# Altium schematic symbol library Ultrascale_SchLib.SchLib: 183 symbols (part 2 of 4)
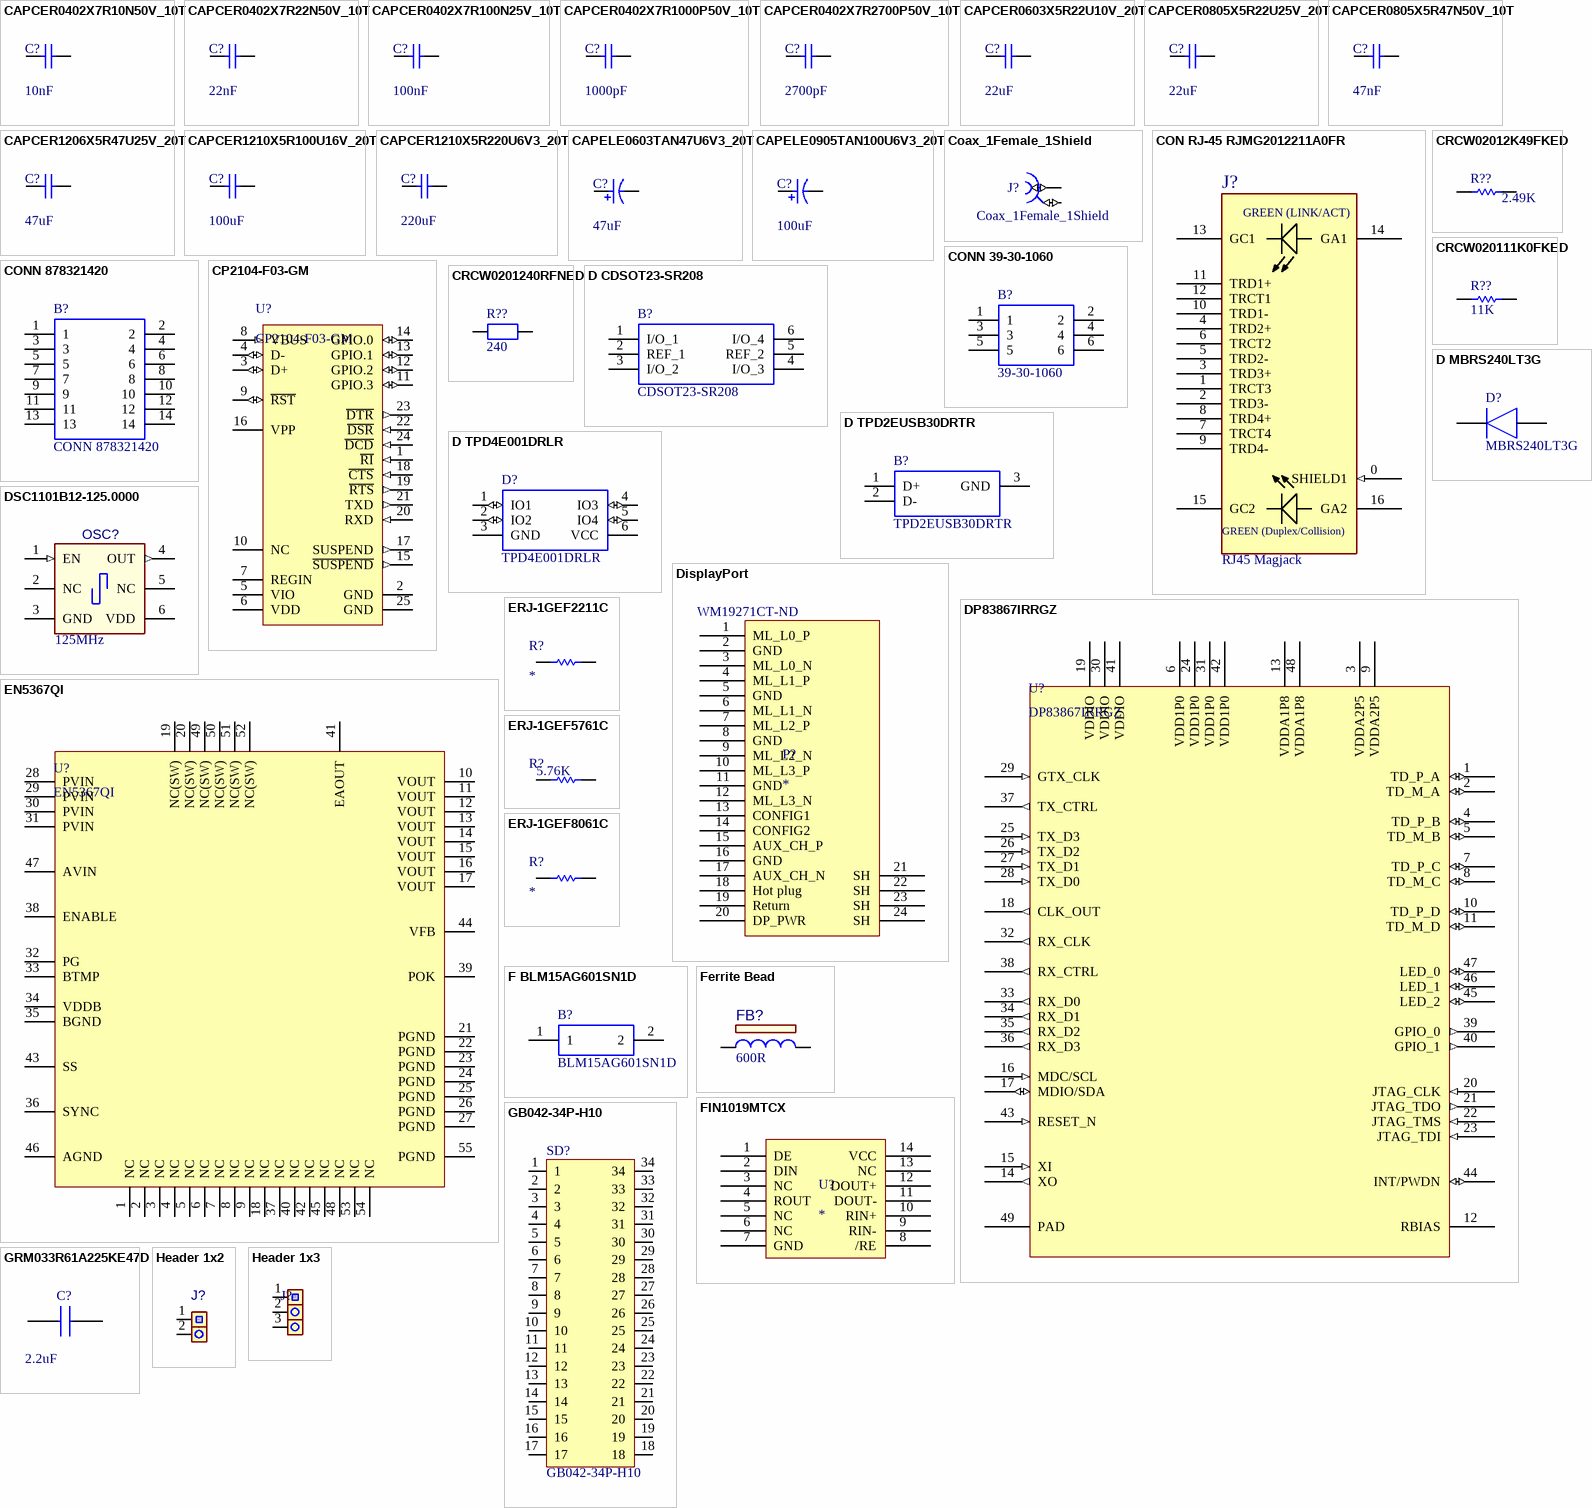
[diagram p9: symbols CAPCER0402X7R10N50V_10T to Header 1x3]

## D TPD2EUSB30DRTR
designator B?, comment TPD2EUSB30DRTR
Texas Instruments TPD2EUSB30DRTR Dual Bi-Directional TVS Diode Array, 45W peak, 3-Pin SOT; Geometry.Height: 0.5mm; Unidirectional Channels: 2; Voltage - Reverse Standoff (Typ): 5.5V (Max); Voltage - Breakdown (Min): 7V; Voltage - Clamping (Max) @ Ipp: 8V; Current - Peak Pulse (10/1000µs): 1A (8/20µs); Power Line Protection: Yes; Manufacturer_Name: Texas Instruments; Manufacturer_Part_Number: TPD2EUSB30DRTR; Datasheet Link: http://docs-europe.electrocomponents.com/webdocs/1520/0900766b81520865.pdf; Digi-Key Part Number: 296-25509-1-ND; Type: Steering; Power - Peak Pulse: 45W; Operating Temperature: -40°C ~ 85°C (TA); Mounting Type: Surface Mount; Package / Case: SOT-3; Supplier Device Package: SOT-3; Supplier 1: Digi-Key; Supplier Part Number 1: 296-25509-6-ND
footprint SOTFL35P100X50-3N (TVS DIODE 5.5VWM 8VC SOT3)
pins: 1 D+, 2 D-, 3 GND

## D TPD4E001DRLR
designator D?, comment TPD4E001DRLR
Low-Capacitance 4-Channel +/-15-kV ESD Protection Array for High-Speed Data Interfaces; Manufacturer_Name: Texas Instruments; Geometry.Height: 0.6mm; Type: Steering; Unidirectional Channels: 4; Voltage - Reverse Standoff (Typ): 5.5V (Max); Voltage - Breakdown (Min): 11V; Power - Peak Pulse: 100W; Power Line Protection: Yes; Manufacturer_Part_Number: TPD4E001DRLR; Datasheet Link: http://www.ti.com/lit/ds/symlink/tpd4e001.pdf; Digi-Key Part Number: 296-21887-1-ND; Applications: Ethernet; Operating Temperature: -40°C ~ 85°C (TA); Mounting Type: Surface Mount; Package / Case: SOT-563, SOT-666; Supplier Device Package: 6-SOT; Supplier 1: Digi-Key; Supplier Part Number 1: 296-21887-1-ND
footprint SOTFL50P160X60-6N
pins: 1 IO1 (io), 2 IO2 (io), 3 GND, 4 IO3 (io), 5 IO4 (io), 6 VCC (power)

## DisplayPort
designator P?  Supplier Part Number 1: WM19271CT-ND
CONN RCPT 20POS UDI R/A SMD; Manufacturer: Molex, LLC; Manufacturer Part Number: 0472720001; Detailed Description: DisplayPort Receptacle Connector 20 Position Surface Mount, Right Angle; Through Hole; Connector Type: DisplayPort; Number of Contacts: 20; Gender: Receptacle; Number of Ports: 1; Current Rating: 0.5A; Voltage - Rated: 40VAC; Mating Cycles: 10000; Shielding: Shielded; Material Flammability Rating: UL94 V-0; Digi-Key Part Number: WM19271CT-ND; Series: 47272; Specifications: -; Mounting Type: Surface Mount, Right Angle; Through Hole; Mounting Feature: Horizontal; Termination: Solder; Features: Board Guide, Latch Lock; Ingress Protection: -; Operating Temperature: -20°C ~ 85°C; Contact Finish: Gold; Shell/Shielding Material: Steel, Stainless; Insulation Color: Black; Supplier 1: Digi-Key
footprint 8470-2-2-X
pins: 1 ML_L0_P  (power), 2 GND (power), 3 ML_L0_N  (power), 4 ML_L1_P  (power), 5 GND (power), 6 ML_L1_N  (power), 7 ML_L2_P  (power), 8 GND (power), 9 ML_L2_N  (power), 10 ML_L3_P  (power), 11 GND (power), 12 ML_L3_N  (power), 13 CONFIG1 (power), 14 CONFIG2 (power), 15 AUX_CH_P (power), 16 GND (power), 17 AUX_CH_N (power), 18 Hot plug (power), 19 Return (power), 20 DP_PWR (power), 21 SH (power), 22 SH (power), 23 SH (power), 24 SH (power)

## DP83867IRRGZ
designator U?
IC ETHERNET PHY 48VQFN; Manufacturer 1: Texas Instruments; Manufacturer Part Number 1: DP83867IRRGZT; ComponentLink1Description: Datasheet; ComponentLink1URL: C:\Users\Public\Documents\Altium\AD16\Library\PDF\dp83867ir.pdf; Supplier 1: Digi-Key; Supplier Part Number 1: 296-47204-1-ND; Operating Temperature: -40°C ~ 85°C
footprint QFN50P700X700X100_HS-49N (QFN, 48-Leads, Body 7.00x7.00mm, Pitch 0.50mm, Thermal Pad 4.08x4.08mm, IPC Medium Density)
pins: 1 TD_P_A (io), 2 TD_M_A (io), 3 VDDA2P5, 4 TD_P_B (io), 5 TD_M_B (io), 6 VDD1P0, 7 TD_P_C (io), 8 TD_M_C (io), 9 VDDA2P5, 10 TD_P_D (io), 11 TD_M_D (io), 12 RBIAS, 13 VDDA1P8, 14 XO (out), 15 XI (in), 16 MDC/SCL (in), 17 MDIO/SDA (io), 18 CLK_OUT (out), 19 VDDIO, 20 JTAG_CLK (in), 21 JTAG_TDO (out), 22 JTAG_TMS (in), 23 JTAG_TDI (in), 24 VDD1P0, 25 TX_D3 (in), 26 TX_D2 (in), 27 TX_D1 (in), 28 TX_D0 (in), 29 GTX_CLK (in), 30 VDDIO, 31 VDD1P0, 32 RX_CLK (out), 33 RX_D0 (out), 34 RX_D1 (out), 35 RX_D2 (out), 36 RX_D3 (out), 37 TX_CTRL (out), 38 RX_CTRL (out), 39 GPIO_0 (out), 40 GPIO_1 (out), 41 VDDIO, 42 VDD1P0, 43 RESET_N (in), 44 INT/PWDN (io), 45 LED_2 (io), 46 LED_1 (io), 47 LED_0 (io), 48 VDDA1P8, 49 PAD

## DSC1101B12-125.0000
designator OSC?  Frequency: 125MHz
OSC MEMS 125.000MHZ CMOS SMD; Manufacturer 1: Micrel; Manufacturer Part Number 1: DSC1101BI2-125.0000; Populated: Yes; Supplier 1: Digi-Key; Category: Crystals and Oscillators; ComponentLink1URL: http://www.ctscorp.com/components/Datasheets/008-0256-0.pdf; ComponentLink1Description: Datasheet; Description_: OSC MEMS 125.000MHZ CMOS SMD; RoHS: RoHS Compliant; Package: 5.0mm x 3.2mm
footprint OSC_5MX3M2_A (Oscillator 5x3.2mm 6 pin, 4 physical pins (2 & 5 removed))
pins: 1 EN (in), 2 NC, 3 GND, 4 OUT (out), 5 NC, 6 VDD (power)

## EN5367QI
designator U?
DC/DC CONVERTER 0.6-4.9V 29W; Manufacturer 1: Altera; Voltage - Output: 0.6 ~ 4.9 V; Voltage - Input: 2.5V - 5.5V; ComponentLink1Description: Datasheet; ComponentLink1URL: C:\Users\Public\Documents\Altium\AD16\Library\PDF\en5367qi_07013.pdf; Supplier 1: Digi-Key; Supplier Part Number 1: 544-2858-1-ND; Manufacturer Part Number 1: EN5367QI; Operating Temperature: -40°C ~ 85°C
footprint QFN54-EN5367QI (Enpirion QFN-54 (EN5367QI))
pins: 1 NC (power), 2 NC (power), 3 NC (power), 4 NC (power), 5 NC (power), 6 NC (power), 7 NC (power), 8 NC (power), 9 NC (power), 10 VOUT (power), 11 VOUT (power), 12 VOUT (power), 13 VOUT (power), 14 VOUT (power), 15 VOUT (power), 16 VOUT (power), 17 VOUT (power), 18 NC (power), 19 NC(SW) (power), 20 NC(SW) (power), 21 PGND (power), 22 PGND (power), 23 PGND (power), 24 PGND (power), 25 PGND (power), 26 PGND (power), 27 PGND (power), 28 PVIN (power), 29 PVIN (power), 30 PVIN (power), 31 PVIN (power), 32 PG (power), 33 BTMP (power), 34 VDDB (power), 35 BGND (power), 36 SYNC (power), 37 NC (power), 38 ENABLE (power), 39 POK (power), 40 NC (power), 41 EAOUT (power), 42 NC (power), 43 SS (power), 44 VFB (power), 45 NC (power), 46 AGND (power), 47 AVIN (power), 48 NC (power), 49 NC(SW) (power), 50 NC(SW) (power), 51 NC(SW) (power), 52 NC(SW) (power), 53 NC (power), 54 NC (power), 55 PGND (power)

## ERJ-1GEF2211C
designator R?
RES 2.21K OHM 0201 1% 1/20W; Manufacturer_Part_Number: ERJ-1GEF2211C; Vendor: Panasonic; Resistance_In_Ohms: 0.0; Power_(Watts): 0.05W, 1/20W; Tolerance: Jumper; Lead_Style: Surface Mount (SMD - SMT); Voltage_-_Working: 15V; Number_of_Terminations: 2; C: Copyright (C) 2015 Accelerated Designs. All rights reserved; DigiKeyPartNumber: P0.0AGTR-ND; Quantity_Available: 1650000; Copyright: Copyright (C) 2015 Accelerated Designs. All rights reserved; DataSheet: http://industrial.panasonic.com/www-data/pdf/AOA0000/AOA0000CE2.pdf; Case: 0201 (0603 metric); Packaging: Tape &amp; Reel (TR); Composition: Thick Film; Temperature_Coefficient: -; Resistance_(Ohms): 0.0; Features: -; Package_/_Case: 0201 (0603 Metric); Size_/_Dimension: 0.024" L x 0.012" W (0.60mm x 0.30mm); Height: 0.010" (0.26mm); Value: Value; Supplier 1: Digi-Key
footprint RC0201N
pins: 1, 2

## ERJ-1GEF5761C
designator R?  Resistance_(Ohms): 5.76K  (hidden comment: *)
RES 5.76K OHM 0201 1% 1/20W; Manufacturer_Part_Number: ERJ-1GEF5761C; Vendor: Panasonic; Power_(Watts): 0.05W, 1/20W; Tolerance: Â±1%; Lead_Style: Surface Mount (SMD - SMT); Voltage_-_Working: 15V; Temperature_Coefficient: Â±200ppm/Â°C; Number_of_Terminations: 2; C: Copyright (C) 2015 Accelerated Designs. All rights reserved; DigiKeyPartNumber: P4.70KABTR-ND; Quantity_Available: 0; Copyright: Copyright (C) 2015 Accelerated Designs. All rights reserved; DataSheet: http://industrial.panasonic.com/www-data/pdf/AOA0000/AOA0000CE2.pdf; Resistance_In_Ohms: 5.76K; Case: 0201 (0603 metric); Packaging: Tape &amp; Reel (TR); Composition: Thick Film; Features: -; Package_/_Case: 0201 (0603 Metric); Size_/_Dimension: 0.024" L x 0.012" W (0.60mm x 0.30mm); Height: 0.010" (0.26mm); Value: Value; Supplier 1: Digi-Key; Supplier Part Number 1: P5.76KABCT-ND
footprint RC0201N
pins: 1, 2

## ERJ-1GEF8061C
designator R?
RES 8.06K OHM 0201 1% 1/20W; Manufacturer_Part_Number: ERJ-1GEF8061C; Vendor: Panasonic; Resistance_In_Ohms: 4.70K; Power_(Watts): 0.05W, 1/20W; Tolerance: Â±1%; Lead_Style: Surface Mount (SMD - SMT); Voltage_-_Working: 15V; Temperature_Coefficient: Â±200ppm/Â°C; Number_of_Terminations: 2; C: Copyright (C) 2015 Accelerated Designs. All rights reserved; DigiKeyPartNumber: P4.70KABTR-ND; Quantity_Available: 0; Copyright: Copyright (C) 2015 Accelerated Designs. All rights reserved; DataSheet: http://industrial.panasonic.com/www-data/pdf/AOA0000/AOA0000CE2.pdf; Case: 0201 (0603 metric); Packaging: Tape &amp; Reel (TR); Composition: Thick Film; Features: -; Package_/_Case: 0201 (0603 Metric); Size_/_Dimension: 0.024" L x 0.012" W (0.60mm x 0.30mm); Height: 0.010" (0.26mm); Value: Value; Supplier 1: Digi-Key
footprint RC0201N
pins: 1, 2

## F BLM15AG601SN1D
designator B?, comment BLM15AG601SN1D
Ferrite bead SMD 0402 600R 300mA; Manufacturer_Name: Murata Electronics; Geometry.Height: 0.55mm; Number of Lines: 1; Impedance @ Frequency: 600 Ohm @ 100MHz; DC Resistance (DCR) (Max): 520 mOhm; Manufacturer_Part_Number: BLM15AG601SN1D; Datasheet Link: http://www.murata.com/~/media/webrenewal/support/library/catalog/products/emc/emifil/c31e.ashx?la=en-gb; Digi-Key Part Number: 490-1006-1-ND; Series: EMIFIL®, BLM15; Current Rating (Max): 300mA; Operating Temperature: -55°C ~ 125°C; Package / Case: 0402 (1005 Metric); Mounting Type: Surface Mount; Height (Max): 0.022" (0.55mm); Size / Dimension: 0.039" L x 0.020" W (1.00mm x 0.50mm); Supplier 1: Digi-Key; Supplier Part Number 1: 490-1006-1-ND
footprint BEADC1005X55N
pins: 1, 2

## Ferrite Bead
designator FB?  value 600R  (hidden comment: Ferrite Bead)
Manufacturer 1: TDK Corporation; Manufacturer Part Number 1: MPZ2012S601AT000; MCHP-ID: IND1162; Description_: FERRITE 2A 600R SMD 0805; Dev Tools Status: Production; Owner: Randolph Sobrepena; DCR: 100M; Test Frequency: 100MHz; Populated: YES; Revision: 1; Symbol: Ferrite Bead; Status: MCL Design; ComponentLink1URL: https://chn-vm-apps.microchip.com/mchprepo/parts/Datasheets/beads_commercial_power_mpz_en; ComponentLink1Description: Datasheet; Package: 0805; Type: Ferrite Bead; Category: Inductor; Supplier 1: Digi-Key; Supplier Part Number 1: 445-2206-1-ND; Quantity Override: 1
footprint IND_C_0805 (Chip Inductor, 2-Leads, Body 2.0x1.3mm, IPC Medium Density)
pins: 1, 2
2 alternate drawings of the same symbol

## FIN1019MTCX
designator U?
IC DRVR/RCVR3.3V LVDS HS 14TSSOP; Manufacturer: Fairchild/ON Semiconductor; Manufacturer Part Number: FIN1019MTCX; Detailed Description: 1/1 Transceiver Full LVDS 14-TSSOP; Number of Drivers/Receivers: 1/1; Duplex: Full; Voltage - Supply: 3 V ~ 3.6 V; Data Rate: 400Mbps; Digi-Key Part Number: FIN1019MTCXCT-ND; Type: Transceiver; Protocol: LVDS; Supplier Device Package: 14-TSSOP; Mounting Type: Surface Mount; Package / Case: 14-TSSOP (0.173", 4.40mm Width); Supplier 1: Digi-Key; Supplier Part Number 1: FIN1019MTCXCT-ND
footprint TSOP65P640X120-14N (TSOP, 14-Leads, Body 5.00x4.40mm, Pitch 0.65mm, IPC Medium Density)
pins: 1 DE (power), 2 DIN (power), 3 NC (power), 4 ROUT (power), 5 NC (power), 6 NC (power), 7 GND (power), 8 /RE (power), 9 RIN- (power), 10 RIN+ (power), 11 DOUT- (power), 12 DOUT+ (power), 13 NC (power), 14 VCC (power)

## GB042-34P-H10
designator SD?
Connector, eMMC
footprint GB042-34P-H10
pins: 1, 2, 3, 4, 5, 6, 7, 8, 9, 10, 11, 12, 13, 14, 15, 16, 17, 18, 19, 20, 21, 22, 23, 24, 25, 26, 27, 28, 29, 30, 31, 32, 33, 34

## GRM033R61A225KE47D
designator C?  value 2.2uF  (hidden comment: GRM033R61A225KE47D)
Multilayer Ceramic Capacitors MLCC - SMD/SMT 0201 2.2uF 10volts *Derate Voltage/Temp; Manufacturer_Name: Murata Electronics; Geometry.Height: 0.33mm; Supplier_Name: RS; RS Part Number: *; Manufacturer_Part_Number: GRM033R61A225KE47D; Other Part Number: *; Datasheet Link: http://www.murata.com/~/media/webrenewal/support/library/catalog/products/capacitor/mlcc/c02e.pdf; Supplier 1: Digi-Key; Supplier Part Number 1: 490-13227-1-ND
footprint CAPC0603X33N
pins: 1, 2

## Header 1x2
designator J?, comment HDR-2.54 Male 1x2  (value not drawn)
CONN HEADER 2POS .100" SGL GOLD; Manufacturer Part Number 1: TSW-102-07-G-S; Manufacturer 1: Samtec; Part Checked: Jennifer Hancock; Description_: CON HDR-2.54 MALE 1x2 GOLD 5.84MH TH VERT; Populated: Yes; Package: Through Hole; Supplier 1: Digi-Key; Supplier Part Number 1: SAM1029-02-ND; Value: HDR-2.54 Male 1x2; Part Footprint Checked: *; Part Golden: Jennifer Hancock; Part 3D Model Checked: Jennifer Hancock; Manufacturer 2: FCI; Manufacturer Part Number 2: 68000-236HLF; Revision Date: 08/14/2015; Tolerance: *; Rating: *; Owner: *; Document Link: //depot_np_hweng_boards/altium_libraries/datasheets/Samtec/TSW_TH.pdf
footprint HDR_M_2.54_1x2 (Header Male Vertical 2 Way 2.54mm Pitch)
pins: 1 P1, 2 P2
1 alternate drawing of the same symbol

## Header 1x3
designator J?, comment 5-146280-3  (value not drawn)
CONN HEADR BRKWAY .100 3POS STR; Manufacturer: TE Connectivity; Manufacturer Part Number: 5-146280-3
footprint CONN_5-146280-3
pins: 1 P1, 2 P2, 3 P3

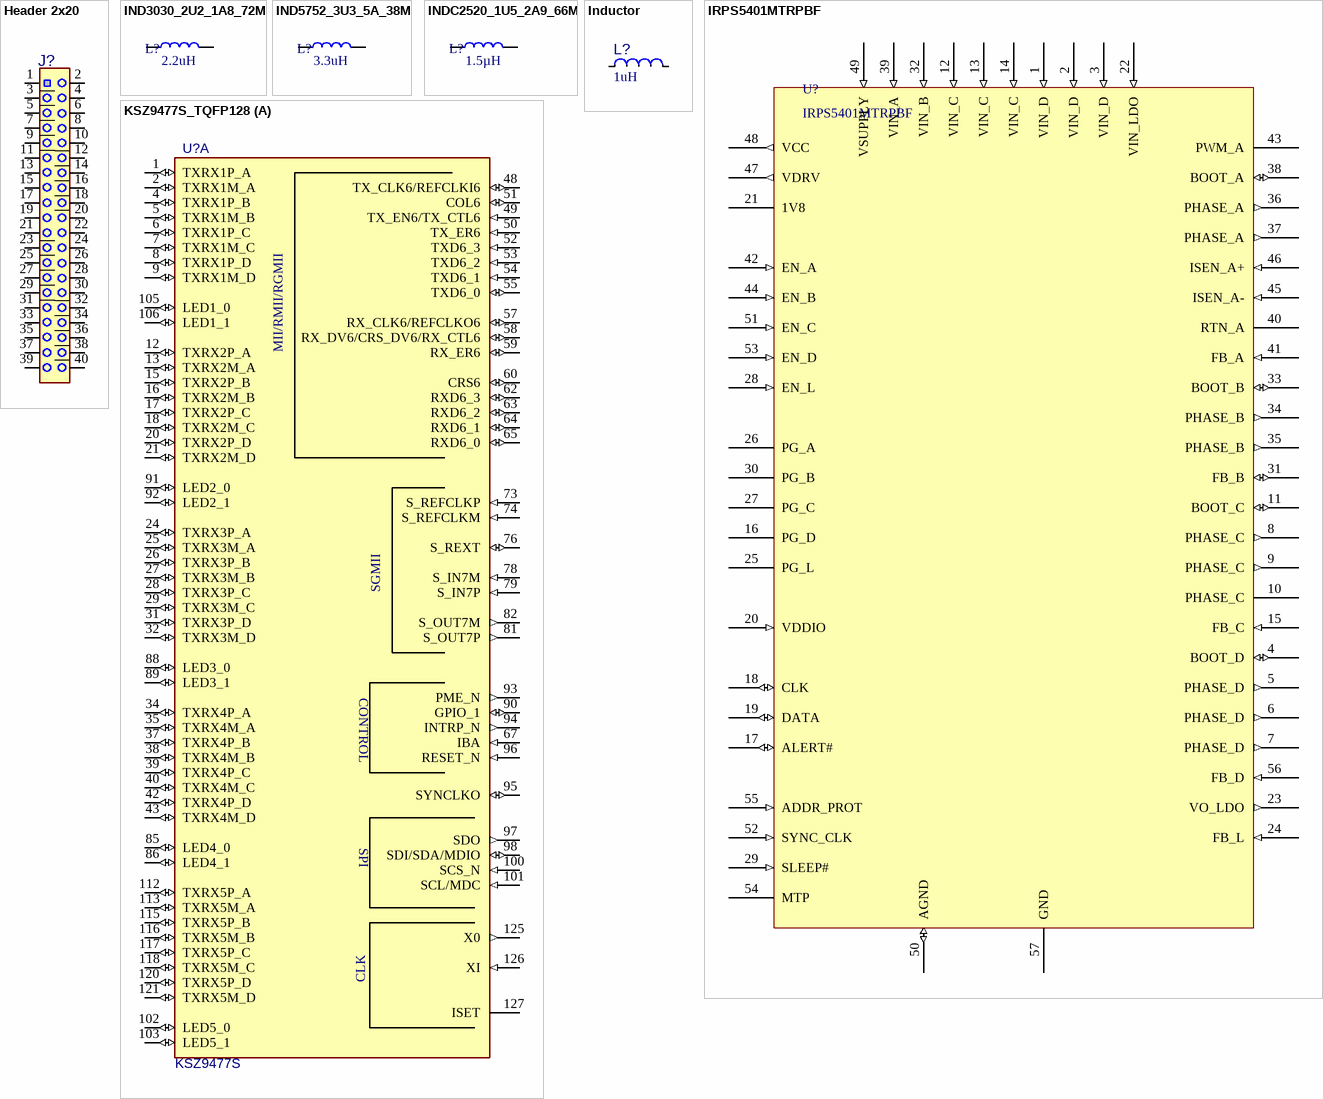
[diagram p2: symbols Header 2x20 to KSZ9477S_TQFP128]

## Header 2x20
designator J?  (value not drawn)
CONN HEADER 40POS .100" SGL GOLD
footprint HDR_M_2.54_2x20 (Header Male Vertical Dual Row 20 Way 2.54mm Pitch)
pins: 1 P1, 2 P2, 3 P3, 4 P4, 5 P5, 6 P6, 7 P7, 8 P8, 9 P9, 10 P10, 11 P11, 12 P12, 13 P13, 14 P14, 15 P15, 16 P16, 17 P17, 18 P18, 19 P19, 20 P20, 21 P21, 22 P22, 23 P23, 24 P24, 25 P25, 26 P26, 27 P27, 28 P28, 29 P29, 30 P30, 31 P31, 32 P32, 33 P33, 34 P34, 35 P35, 36 P36, 37 P37, 38 P38, 39 P39, 40 P40

## IND3030_2U2_1A8_72M
designator L?  Inductance: 2.2uH
FIXED IND 2.2UH 1.8A 72 MOHM SMD; Manufacturer 1: Bourns Inc.; Manufacturer Part Number 1: SRN3015-2R2M; DC Resistance (DCR) (Max): 72 mOhm Max; Tolerance: ±20%; Current - Saturation: 1.65A; Package: 3.00mm x 3.00mm; ComponentLink1Description: Datasheet; ComponentLink1URL: C:\Users\Public\Documents\Altium\AD16\Library\PDF\SRN3015.pdf; Supplier 1: Digi-Key; Supplier Part Number 1: SRN3015-2R2MCT-ND; Operating Temperature: -40°C ~ 125°C; Current Rating: 1.8A
footprint IND_SRN3015 (Bourns Inc., SRN3015 Series, Body 3.0x3.0mm)
pins: 1, 2

## IND5752_3U3_5A_38M
designator L?  Inductance: 3.3uH
FIXED IND 3.3UH 5A 38 MOHM SMD; Manufacturer 1: Bourns Inc.; Manufacturer Part Number 1: SRP5030T-3R3M; DC Resistance (DCR) (Max): 38 mOhm Max; Tolerance: ±20%; Current - Saturation: 8A; Package: 5.70mm x 5.20mm; ComponentLink1Description: Datasheet; ComponentLink1URL: C:\Users\Public\Documents\Altium\AD16\Library\PDF\SRP5030T.pdf; Supplier 1: Digi-Key; Supplier Part Number 1: SRP5030T-3R3MCT-ND; Operating Temperature: -40°C ~ 125°C; Current Rating: 5A
footprint IND_SRP5030T (Bourns Inc., SRP5030T Series, Body 5.7x5.2mm)
pins: 1, 2

## INDC2520_1U5_2A9_66M
designator L?  Inductance: 1.5µH
FIXED IND 1.5UH 2.9A 66 MOHM SMD; Manufacturer 1: Vishay Dale; Manufacturer Part Number 1: IHHP1008ABER1R5M01; DC Resistance (DCR) (Max): 66 mOhm; Tolerance: ±20%; Current - Saturation: 3.4A; Package: 1008 (2520 Metric); ComponentLink1Description: Datasheet; ComponentLink1URL: C:\Users\Public\Documents\Altium\AD16\Library\PDF\ihhp-1008ab-01.pdf; Supplier 1: Digi-Key; Supplier Part Number 1: 541-2669-1-ND; Operating Temperature: -55°C ~ 125°C; Current Rating: 2.9A
footprint INDC2520 (Chip Inductor, Body 2.5x2.0mm)
pins: 1, 2

## Inductor
designator L?  value 1uH  (hidden comment: Inductor)
Manufacturer 1: Taiyo Yuden; Manufacturer Part Number 1: NR3015T1R0N; MCHP-ID: IND1027; Description_: INDUCTOR 1uH 2.1A 30% SMD L3W3H1.5; Dev Tools Status: Production; Owner: Tad Ahlvers; DCR: 0.036R; Saturation Current: 2.1A; Test Frequency: 100kHz; Populated: YES; Revision: 1; Status: MCL Design; ComponentLink1URL: https://chn-vm-apps.microchip.com/mchprepo/parts/Datasheets/NR3015T1R0N.pdf; ComponentLink1Description: Datasheet; Operating Temperature: -25C to +120C; Package: L3W3H1.5; Type: Inductor; Category: Inductor; Supplier 1: Digi-Key; Supplier Part Number 1: 587-1647-1-ND; Quantity Override: 1
footprint IND_TAI_NR_L3W3H1.5
pins: 1 S, 2 F
2 alternate drawings of the same symbol

## IRPS5401MTRPBF
designator U?
Flexible Power Management Unit; Manufacturer 1: Infineon Technologies; ComponentLink1Description: Datasheet; ComponentLink1URL: C:\Users\Public\Documents\Altium\AD16\Library\PDF\Infineon-PB-IRPS5401-PB-v01_00-EN.pdf; Supplier 1: Digi-Key; Supplier Part Number 1: IRPS5401MTRPBF-ND; Manufacturer Part Number 1: IRPS5401MTRPBF; Operating Temperature: -40°C To 125°C
footprint QFN40P700X700X90_HS-57N (QFN, 56-Leads, Body 7.00x7.00mm, Pitch 0.40mm, Thermal Pad 5.60x5.60mm, IPC Medium Density)
pins: 1 VIN_D (in), 2 VIN_D (in), 3 VIN_D (in), 4 BOOT_D (io), 5 PHASE_D (out), 6 PHASE_D (out), 7 PHASE_D (out), 8 PHASE_C (out), 9 PHASE_C (out), 10 PHASE_C, 11 BOOT_C (io), 12 VIN_C (in), 13 VIN_C (in), 14 VIN_C (in), 15 FB_C (in), 16 PG_D, 17 ALERT# (io), 18 CLK (io), 19 DATA (io), 20 VDDIO (in), 21 1V8, 22 VIN_LDO (in), 23 VO_LDO (out), 24 FB_L (in), 25 PG_L, 26 PG_A, 27 PG_C, 28 EN_L (in), 29 SLEEP# (in), 30 PG_B, 31 FB_B (io), 32 VIN_B (in), 33 BOOT_B (io), 34 PHASE_B (out), 35 PHASE_B (out), 36 PHASE_A (out), 37 PHASE_A (out), 38 BOOT_A (io), 39 VIN_A (in), 40 RTN_A, 41 FB_A (in), 42 EN_A (in), 43 PWM_A, 44 EN_B (in), 45 ISEN_A- (in), 46 ISEN_A+ (in), 47 VDRV (out), 48 VCC (out), 49 VSUPPLY (in), 50 AGND (io), 51 EN_C (in), 52 SYNC_CLK (in), 53 EN_D (in), 54 MTP, 55 ADDR_PROT (in), 56 FB_D (in), 57 GND

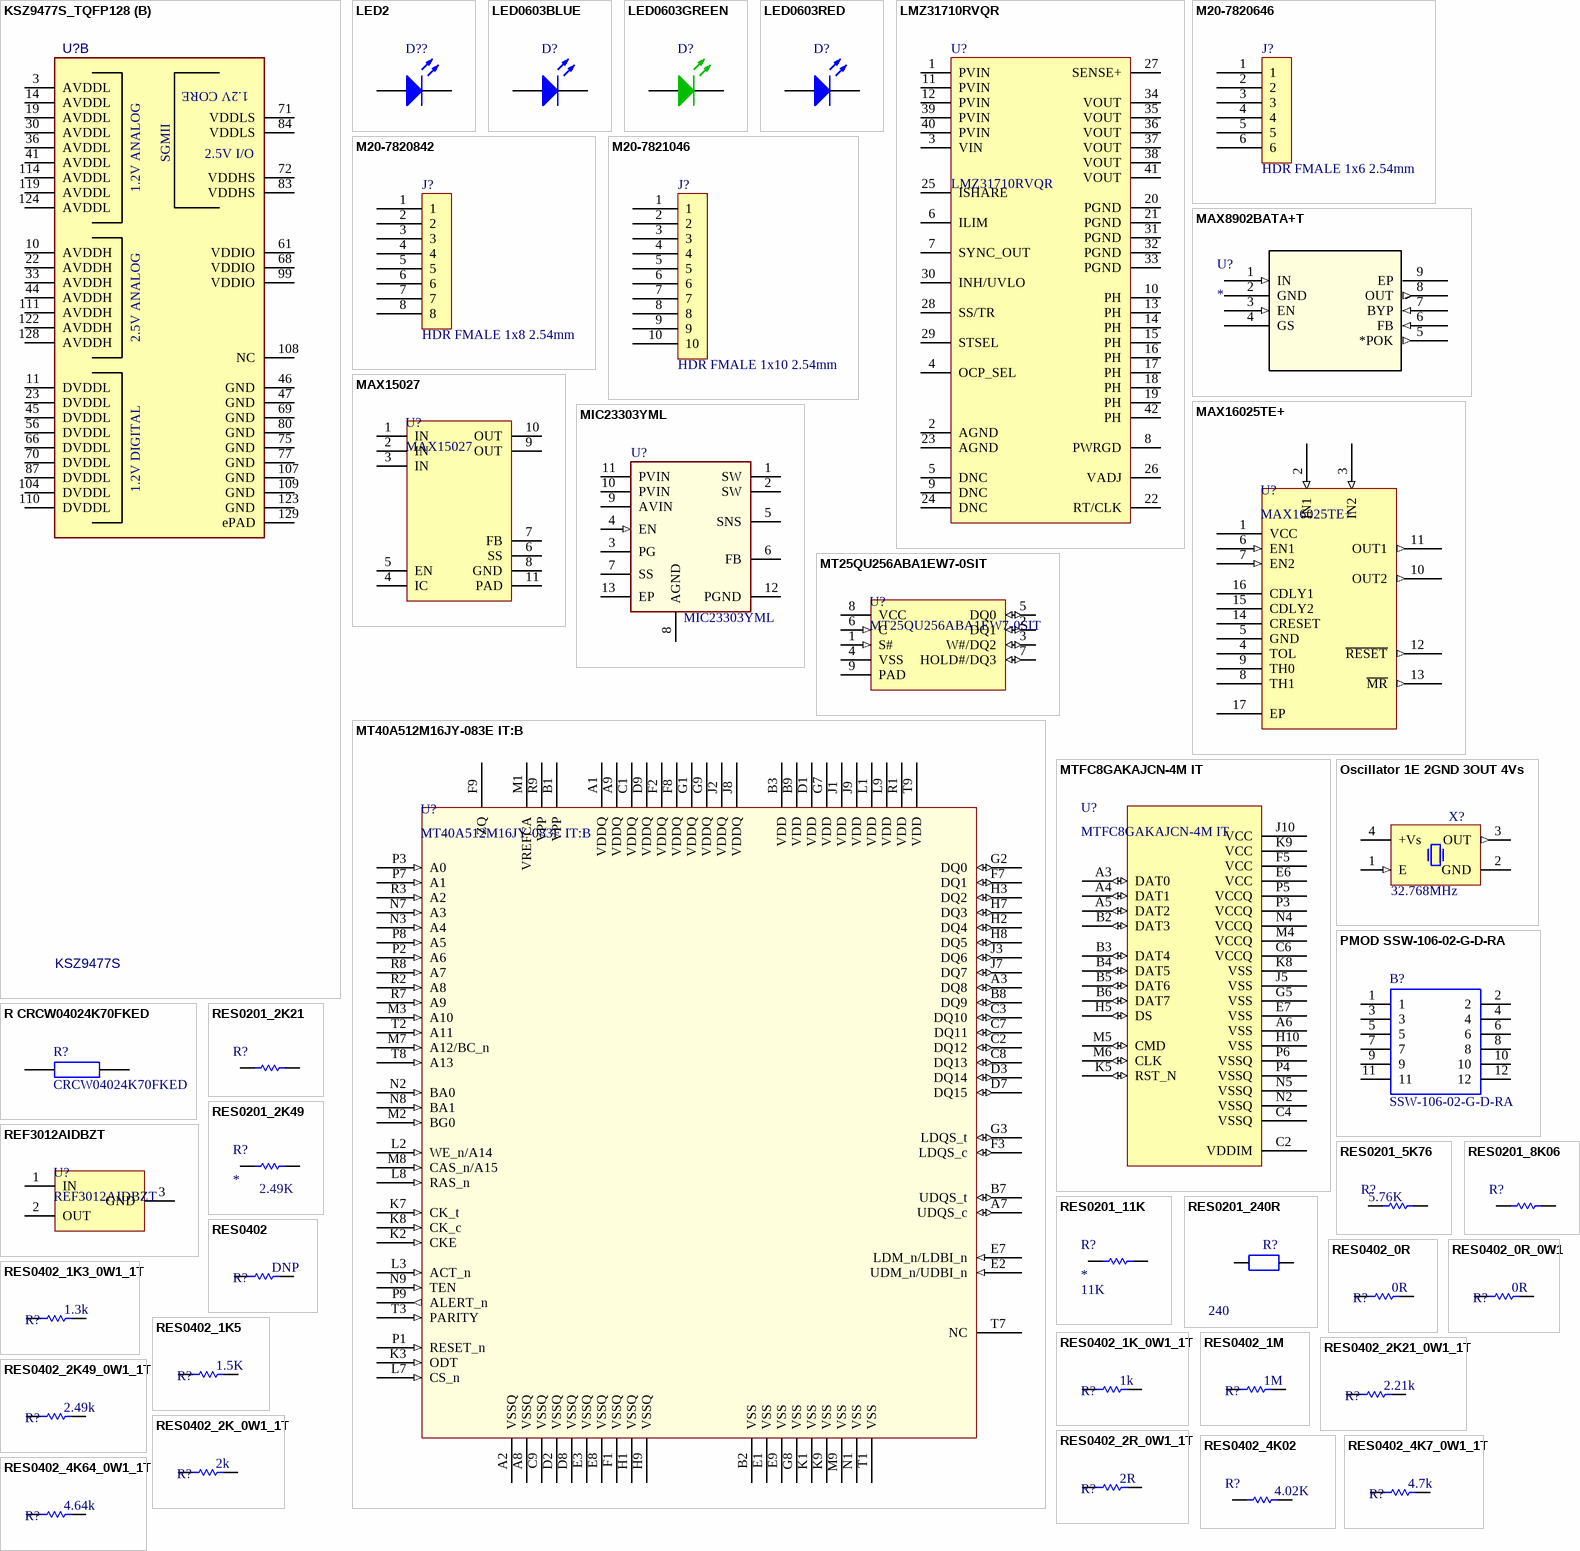
[diagram p3: symbols KSZ9477S_TQFP128 to RES0402_4K64_0W1_1T]

## KSZ9477S_TQFP128
designator U?, comment KSZ9477S
IC, 7-Port Gigabit Ethernet Switch with 2 RGMII / MII / RMII Interfaces, TQFP128; Manufacturer 1: Micrel; Populated: Yes; Owner: sam charles; Manufacturer Part Number 1: KSZ9477S; Description_: IC, 7-Port Gigabit Ethernet Switch with 2 RGMII / MII / RMII Interfaces, TQFP128; Revision Date: 06/03/2016; RoHS: Yes; Package: TQFP128-14x14; Document Link: http://nyusperforce.smsc.com//depot_np_hweng_boards/altium_libraries/datasheets/_Microchip/_Micrel/KSZ9897R.pdf; Status: New; Value: KSZ9477S
footprint TQFP-128_14x14_EP10x10 (TSQFP, 128-Leads, Body 14.00x14.00mm, Pitch 0.40mm, 10mm Epad, IPC Medium Density)
part A pins: 1 TXRX1P_A (io), 2 TXRX1M_A (io), 4 TXRX1P_B (io), 5 TXRX1M_B (io), 6 TXRX1P_C (io), 7 TXRX1M_C (io), 8 TXRX1P_D (io), 9 TXRX1M_D (io), 12 TXRX2P_A (io), 13 TXRX2M_A (io), 15 TXRX2P_B (io), 16 TXRX2M_B (io), 17 TXRX2P_C (io), 18 TXRX2M_C (io), 20 TXRX2P_D (io), 21 TXRX2M_D (io), 24 TXRX3P_A (io), 25 TXRX3M_A (io), 26 TXRX3P_B (io), 27 TXRX3M_B (io), 28 TXRX3P_C (io), 29 TXRX3M_C (io), 31 TXRX3P_D (io), 32 TXRX3M_D (io), 34 TXRX4P_A (io), 35 TXRX4M_A (io), 37 TXRX4P_B (io), 38 TXRX4M_B (io), 39 TXRX4P_C (io), 40 TXRX4M_C (io), 42 TXRX4P_D (io), 43 TXRX4M_D (io), 48 TX_CLK6/REFCLKI6 (io), 49 TX_EN6/TX_CTL6 (in), 50 TX_ER6 (in), 51 COL6 (io), 52 TXD6_3 (in), 53 TXD6_2 (in), 54 TXD6_1 (in), 55 TXD6_0 (io), 57 RX_CLK6/REFCLKO6 (io), 58 RX_DV6/CRS_DV6/RX_CTL6 (io), 59 RX_ER6 (io), 60 CRS6 (io), 62 RXD6_3 (io), 63 RXD6_2 (io), 64 RXD6_1 (io), 65 RXD6_0 (io), 67 IBA (in), 73 S_REFCLKP (in), 74 S_REFCLKM (in), 76 S_REXT (io), 78 S_IN7M (in), 79 S_IN7P (in), 81 S_OUT7P (out), 82 S_OUT7M (out), 85 LED4_0 (io), 86 LED4_1 (io), 88 LED3_0 (io), 89 LED3_1 (io), 90 GPIO_1 (io), 91 LED2_0 (io), 92 LED2_1 (io), 93 PME_N (out), 94 INTRP_N (out), 95 SYNCLKO (io), 96 RESET_N (in), 97 SDO (out), 98 SDI/SDA/MDIO (io), 100 SCS_N (in), 101 SCL/MDC (in), 102 LED5_0 (io), 103 LED5_1 (io), 105 LED1_0 (io), 106 LED1_1 (io), 112 TXRX5P_A (io), 113 TXRX5M_A (io), 115 TXRX5P_B (io), 116 TXRX5M_B (io), 117 TXRX5P_C (io), 118 TXRX5M_C (io), 120 TXRX5P_D (io), 121 TXRX5M_D (io), 125 X0 (out), 126 XI (in), 127 ISET
part B pins: 3 AVDDL (power), 10 AVDDH (power), 11 DVDDL (power), 14 AVDDL (power), 19 AVDDL (power), 22 AVDDH (power), 23 DVDDL (power), 30 AVDDL (power), 33 AVDDH (power), 36 AVDDL (power), 41 AVDDL (power), 44 AVDDH (power), 45 DVDDL (power), 46 GND (power), 47 GND (power), 56 DVDDL (power), 61 VDDIO (power), 66 DVDDL (power), 68 VDDIO (power), 69 GND (power), 70 DVDDL (power), 71 VDDLS (power), 72 VDDHS (power), 75 GND (power), 77 GND (power), 80 GND (power), 83 VDDHS (power), 84 VDDLS (power), 87 DVDDL (power), 99 VDDIO (power), 104 DVDDL (power), 107 GND (power), 108 NC, 109 GND (power), 110 DVDDL (power), 111 AVDDH (power), 114 AVDDL (power), 119 AVDDL (power), 122 AVDDH (power), 123 GND (power), 124 AVDDL (power), 128 AVDDH (power), 129 ePAD (power)
part A text: MII/RMII/RGMII; SGMII; CONTROL; SPI; CLK
part B text: 1.2V CORE; SGMII; 2.5V I/O; 1.2V ANALOG; 2.5V ANALOG; 1.2V DIGITAL

## LED2
designator D??
Typical RED, GREEN, YELLOW, AMBER GaAs LED; Published: 8-Jun-2000; LatestRevisionDate: 17-Jul-2002; LatestRevisionNote: Re-released for DXP Platform.; PackageVersion: Feb-2002; PackageReference: 3.2X1.6X1.1; Publisher: Altium Limited; PackageDescription: SM LED; 2 Flat Leads
footprint 3.2X1.6X1.1 (SMT LED; 2 Flat Leads)
simulation model LED2 (Diode)
pins: 1 A, 2 K

## LED0603BLUE
designator D?
LED BLUE DIFFUSED 0603 SMD; Manufacturer 1: Broadcom Limited; Manufacturer Part Number 1: HSMR-C191; Voltage - Forward (Vf) (Typ): 3.4V; Current - Test: 20mA; Package: 0603; Supplier 1: Digi-Key; Supplier Part Number 1: 516-2523-1-ND; ComponentLink1Description: Datasheet; ComponentLink1URL: C:\Users\Public\Documents\Altium\AD16\Library\PDF\AV02-0592EN0.pdf
footprint LED0603BLUE (1.6x0.8mm LED)
pins: 1 A, 2 K

## LED0603GREEN
designator D?
LED GREEN DIFFUSED 0603 SMD; Manufacturer 1: Broadcom Limited; Manufacturer Part Number 1: HSMM-C190; Voltage - Forward (Vf) (Typ): 3.3V; Current - Test: 20mA; Package: 0603; Supplier 1: Digi-Key; Supplier Part Number 1: 516-2833-1-ND; ComponentLink1Description: Datasheet; ComponentLink1URL: C:\Users\Public\Documents\Altium\AD16\Library\PDF\AV02-0592EN0.pdf
footprint LED0603GREEN (1.6x0.8mm LED)
pins: 1 A, 2 K

## LED0603RED
designator D?
LED RED DIFFUSED 0603 SMD; Manufacturer 1: Broadcom Limited; Manufacturer Part Number 1: HSMH-C191; Voltage - Forward (Vf) (Typ): 1.8V; Current - Test: 20mA; Package: 0603; Supplier 1: Digi-Key; Supplier Part Number 1: 516-3067-1-ND; ComponentLink1Description: Datasheet; ComponentLink1URL: C:\Users\Public\Documents\Altium\AD16\Library\PDF\AV02-0592EN0.pdf
footprint LED0603RED (1.6x0.8mm LED)
pins: 1 A, 2 K

## LMZ31710RVQR
designator U?
DC/DC CONVERTER 0.6-5.5V 55W; Manufacturer 1: Texas Instruments; ComponentLink1Description: Datasheet; ComponentLink1URL: C:\Users\Public\Documents\Altium\AD16\Library\PDF\lmz31710.pdf; Manufacturer Part Number 1: LMZ31710RVQR; Supplier 1: Digikey; Supplier Part Number 1: 296-43646-1-ND; Operating Temperature: -40°C ~ 85°C
footprint LMZ31710RVQR (TI RVQ PAckage Regulator)
pins: 1 PVIN (power), 2 AGND (power), 3 VIN (power), 4 OCP_SEL (power), 5 DNC (power), 6 ILIM (power), 7 SYNC_OUT (power), 8 PWRGD (power), 9 DNC (power), 10 PH (power), 11 PVIN (power), 12 PVIN (power), 13 PH (power), 14 PH (power), 15 PH (power), 16 PH (power), 17 PH (power), 18 PH (power), 19 PH (power), 20 PGND (power), 21 PGND (power), 22 RT/CLK (power), 23 AGND (power), 24 DNC (power), 25 ISHARE (power), 26 VADJ (power), 27 SENSE+ (power), 28 SS/TR (power), 29 STSEL (power), 30 INH/UVLO (power), 31 PGND (power), 32 PGND (power), 33 PGND (power), 34 VOUT (power), 35 VOUT (power), 36 VOUT (power), 37 VOUT (power), 38 VOUT (power), 39 PVIN (power), 40 PVIN (power), 41 VOUT (power), 42 PH (power)

## M20-7820646
designator J?, comment HDR FMALE 1x6 2.54mm
06-WAY SIL VERT SOCKET L/FREE; Manufacturer 1: Harwin Inc; Manufacturer Part Number 1: M20-7820646; Connector Type: Receptacle; Number of Positions: 6; Number of Positions Loaded: All; Pitch: 0.100" (2.54mm); .Checked PCB: MM; Supplier 1: Digi-Key; RoHS: RoHS Compliant; Category: Connectors, Interconnects; Stock 1: 87; Pricing 1: 1=0.96, 38=0.79211, 76=0.75895, 114=0.72596, 266=0.66, 532=0.594, 1026=0.528, 2508=0.4785 (USD); Packaging: Tube; Contact Type: Female Socket; Number of Rows: 1; Row Spacing: -; Mounting Type: Through Hole; Termination: Solder; Fastening Type: -; Features: -; Contact Finish: Tin; Contact Finish Thickness: -; Color: Black; ComponentLink1URL: http://harwin.com/includes/pdfs/M20-782.pdf; ComponentLink1Description: http://harwin.com/includes/pdfs/M20-782.pdf; Supplier Part Number 1: 952-1809-ND; .Checked SCH: MM; .Creator: MM
footprint Hdr_Female_1x6_2.54mm (Creator MM)
pins: 1, 2, 3, 4, 5, 6

## M20-7820842
designator J?, comment HDR FMALE 1x8 2.54mm
08-WAY SIL VERT SOCKET L/FREE; Manufacturer 1: Harwin Inc; Manufacturer Part Number 1: M20-7820842; Connector Type: Receptacle; Number of Positions: 8; Number of Positions Loaded: All; Pitch: 0.100" (2.54mm); .Creator: MM; .Checked PCB: RF; Supplier 1: Digi-Key; RoHS: RoHS Compliant; Category: Connectors, Interconnects; Stock 1: 2070; Pricing 1: 1=1.1, 29=0.91207, 58=0.87397, 116=0.83603, 261=0.76, 522=0.684, 1015=0.608, 2523=0.551 (USD); Packaging: Tube; Contact Type: Female Socket; Number of Rows: 1; Row Spacing: -; Mounting Type: Through Hole; Termination: Solder; Fastening Type: -; Features: -; Contact Finish: Gold; Contact Finish Thickness: Flash; Color: Black; ComponentLink1URL: http://harwin.com/includes/pdfs/M20-782.pdf; ComponentLink1Description: http://harwin.com/includes/pdfs/M20-782.pdf; Supplier Part Number 1: 952-1823-ND; .Checked SCH: RF
footprint Hdr_Female_1x8_2.54mm (Creator MM)
pins: 1, 2, 3, 4, 5, 6, 7, 8

## M20-7821046
designator J?, comment HDR FMALE 1x10 2.54mm
10-WAY SIL VERT SOCKET L/FREE; Manufacturer 1: Harwin Inc; Manufacturer Part Number 1: M20-7821046; Connector Type: Receptacle; Number of Positions: 10; Number of Positions Loaded: All; Pitch: 0.100" (2.54mm); .Creator: MM; .Checked PCB: RF; Supplier 1: Digi-Key; RoHS: RoHS Compliant; Category: Connectors, Interconnects; Stock 1: 214; Pricing 1: 1=1.28, 23=1.12217, 46=1.05609, 69=1.01203, 115=0.968, 253=0.88, 506=0.792, 1012=0.704, 2507=0.638 (USD); Packaging: Tube; Contact Type: Female Socket; Number of Rows: 1; Row Spacing: -; Mounting Type: Through Hole; Termination: Solder; Fastening Type: -; Features: -; Contact Finish: Tin; Contact Finish Thickness: -; Color: Black; ComponentLink1URL: http://harwin.com/includes/pdfs/M20-782.pdf; ComponentLink1Description: http://harwin.com/includes/pdfs/M20-782.pdf; Supplier Part Number 1: 952-1847-ND; .Checked SCH: RF
footprint Hdr_Female_1x10_2.54mm (Creator MM)
pins: 1, 2, 3, 4, 5, 6, 7, 8, 9, 10

## MAX8902BATA+T
designator U?
IC REG LDO ADJ 0.5A 8TDFN; Manufacturer_Part_Number: MAX8902BATA+T; Vendor: Maxim Integrated Products; C: Copyright (C) 2015 Accelerated Designs. All rights reserved; Copyright: Copyright (C) 2015 Accelerated Designs. All rights reserved; Value: Value; Type: Type; RefDes: RefDes; Supplier 1: Digi-Key; Supplier Part Number 1: MAX8902BATA+TCT-ND
footprint 21-0168E_T822-1
pins: 1 IN (in), 2 GND (power), 3 EN (in), 4 GS, 5 *POK (out), 6 FB (in), 7 BYP (in), 8 OUT (out), 9 EP

## MAX15027
designator U?
IC REG LINEAR POS ADJ 1A 10TDFN; Manufacturer 1: Maxim Integrated; Manufacturer Part Number 1: MAX15027ATB+T; ComponentLink1Description: Datasheet; ComponentLink1URL: C:\Users\Public\Documents\Altium\AD16\Library\PDF\MAX15027-MAX15028.pdf; Supplier 1: Digi-Key; Supplier Part Number 1: MAX15027ATB+TCT-ND; Operating Temperature: -40°C ~ 125°C
footprint MAX15027_T1033+1_V (SON, 10-Leads, Body 3x3mm, Pitch 0.5mm, Thermal Pad 2.35x1.58mm, Maxim Recommended)
pins: 1 IN, 2 IN, 3 IN, 4 IC, 5 EN, 6 SS, 7 FB, 8 GND, 9 OUT, 10 OUT, 11 PAD

## MAX16025TE+
designator U?
IC SUPERVISORY CIRC DL 16TQFN; Manufacturer 1: Maxim Integrated; ComponentLink1Description: Datasheet; ComponentLink1URL: C:\Users\Public\Documents\Altium\AD16\Library\PDF\MAX16025-MAX16030.pdf; Supplier 1: Digi-Key; Supplier Part Number 1: MAX16025TE+-ND; Manufacturer Part Number 1: MAX16025TE+; Operating Temperature: -40°C ~ 125°C (TA)
footprint T1644+4_L (QFN, 16-Leads, Body 4x4mm, Pitch 0.65mm, Thermal Pad 2.3x2.3mm, IPC High Density)
pins: 1 VCC, 2 IN1 (in), 3 IN2 (in), 4 TOL, 5 GND, 6 EN1 (in), 7 EN2 (in), 8 TH1, 9 TH0, 10 OUT2 (out), 11 OUT1 (out), 12 ~{RESET} (out), 13 ~{MR} (out), 14 CRESET, 15 CDLY2, 16 CDLY1, 17 EP

## MIC23303YML
designator U?
4MHz PWM 3A Buck Regulator with HyperLight Load and Power Good; Part Checked: Carl Johnson; Manufacturer 1: Microchip Technology; Populated: Yes; Temperature Rating: -40 to +125 C; Description_: 4MHz PWM 3A Buck Regulator with HyperLight Load and Power Good; Document Link: http://nyusperforce.smsc.com//depot_np_hweng_boards/altium_libraries/datasheets/_Microchip/_Micrel/MIC23303.pdf; Owner: *; Part 3D Model Checked: *; Part Footprint Checked: *; Part Golden: *; Revision Date: 06/20/16; Package: DFN12-3x3; Manufacturer Part Number 1: MIC23303YML; Supplier 1: DigiKey; Supplier 2: Mouser; Supplier Part Number 1: 1611-MIC23303YML-T5CT-ND; Supplier Part Number 2: 998-MIC23303YMLT5; Value: MIC23303YML
footprint DFN-12_3x3 (Footprint not found)
pins: 1 SW, 2 SW, 3 PG (power), 4 EN (in), 5 SNS, 6 FB (hiz), 7 SS, 8 AGND (power), 9 AVIN (power), 10 PVIN (power), 11 PVIN (power), 12 PGND (power), 13 EP

## MT25QU256ABA1EW7-0SIT
designator U?
IC FLASH 256MBIT 108MHZ 8VPDFN; Manufacturer 1: Micron Technology Inc.; ComponentLink1Description: Datasheet; ComponentLink1URL: C:\Users\Public\Documents\Altium\AD16\Library\PDF\MT25Q_QLJS_U_256_ABA_0.pdf; Supplier 1: Digi-Key; Manufacturer Part Number 1: MT25QU256ABA1EW7-0SIT
footprint W-PDFN-8_6x5mm (SON, 8-Leads, Body 5.00x6.00mm, Pitch 1.27mm, Thermal Pad 3.00x3.00mm, IPC Medium Density)
pins: 1 S# (in), 2 DQ1 (io), 3 W#/DQ2 (io), 4 VSS, 5 DQ0 (io), 6 C (in), 7 HOLD#/DQ3 (io), 8 VCC, 9 PAD

## MT40A512M16JY-083E IT:B
designator U?
IC SDRAM 8GBIT 1.2GHZ 96BGA; Manufacturer 1: Micron Technology Inc.; ComponentLink1Description: Datasheet; ComponentLink1URL: C:\Users\Public\Documents\Altium\AD16\Library\PDF\8Gb_DDR4_SDRAM.pdf; Supplier 1: Digi-Key; Supplier Part Number 1: 557-1690-1-ND; Manufacturer Part Number 1: MT40A512M16JY-083E IT:B; Operating Temperature: -40°C ~ 95°C (TC)
footprint BGA96C80P9X16_800X1400X120 (BGA, 96-Leads, Body 8.00x14.00mmx1.20mm, Pitch 0.80mm)
pins: A1 VDDQ, A2 VSSQ, A3 DQ8 (io), A7 UDQS_c (io), A8 VSSQ, A9 VDDQ, B1 VPP, B2 VSS, B3 VDD, B7 UDQS_t (io), B8 DQ9 (io), B9 VDD, C1 VDDQ, C2 DQ12 (io), C3 DQ10 (io), C7 DQ11 (io), C8 DQ13 (io), C9 VSSQ, D1 VDD, D2 VSSQ, D3 DQ14 (io), D7 DQ15 (io), D8 VSSQ, D9 VDDQ, E1 VSS, E2 UDM_n/UDBI_n (in), E3 VSSQ, E7 LDM_n/LDBI_n (in), E8 VSSQ, E9 VSS, F1 VSSQ, F2 VDDQ, F3 LDQS_c (io), F7 DQ1 (io), F8 VDDQ, F9 ZQ, G1 VDDQ, G2 DQ0 (io), G3 LDQS_t (io), G7 VDD, G8 VSS, G9 VDDQ, H1 VSSQ, H2 DQ4 (io), H3 DQ2 (io), H7 DQ3 (io), H8 DQ5 (io), H9 VSSQ, J1 VDD, J2 VDDQ, J3 DQ6 (io), J7 DQ7 (io), J8 VDDQ, J9 VDD, K1 VSS, K2 CKE (in), K3 ODT (in), K7 CK_t (in), K8 CK_c (in), K9 VSS, L1 VDD, L2 WE_n/A14 (in), L3 ACT_n (in), L7 CS_n (in), L8 RAS_n (in), L9 VDD, M1 VREFCA, M2 BG0 (in), M3 A10 (in), M7 A12/BC_n (in), M8 CAS_n/A15 (in), M9 VSS, N1 VSS, N2 BA0 (in), N3 A4 (in), N7 A3 (in), N8 BA1 (in), N9 TEN (in), P1 RESET_n (in), P2 A6 (in), P3 A0 (in), P7 A1 (in), P8 A5 (in), P9 ALERT_n (out), R1 VDD, R2 A8 (in), R3 A2 (in), R7 A9 (in), R8 A7 (in), R9 VPP, T1 VSS, T2 A11 (in), T3 PARITY (in), T7 NC, T8 A13 (in), T9 VDD

## MTFC8GAKAJCN-4M IT
designator U?
MASSFLASH/CONTROLLER 64G; Manufacturer 1: Micron Technology Inc.; ComponentLink1Description: Datasheet; ComponentLink1URL: C:\Users\Public\Documents\Altium\AD16\Library\PDF\; Supplier 1: Digi-Key; Supplier Part Number 1: MTFC8GAKAJCN-4M IT-ND; Manufacturer Part Number 1: MTFC8GAKAJCN-4M IT; Operating Temperature: -40°C ~ 85°C (TA)
footprint eMMC (VFBGA 153 ball 11.5x13mm Micron)
pins: A3 DAT0 (io), A4 DAT1 (io), A5 DAT2 (io), A6 VSS (power), B2 DAT3 (io), B3 DAT4 (io), B4 DAT5 (io), B5 DAT6 (io), B6 DAT7 (io), C2 VDDIM (power), C4 VSSQ (power), C6 VCCQ (power), E6 VCC (power), E7 VSS (power), F5 VCC (power), G5 VSS (power), H5 DS (io), H10 VSS (power), J5 VSS (power), J10 VCC (power), K5 RST_N (io), K8 VSS (power), K9 VCC (power), M4 VCCQ (power), M5 CMD (io), M6 CLK (io), N2 VSSQ (power), N4 VCCQ (power), N5 VSSQ (power), P3 VCCQ (power), P4 VSSQ (power), P5 VCCQ (power), P6 VSSQ (power)

## Oscillator 1E 2GND 3OUT 4Vs
designator X?, comment 32.768MHz
Oscillator 4 pins 1=E 2=GND 3=OUT 4=+Vs; Part Number: OSC_32.7688MHZ_RAKON_LF SPXO019203; Part Description: 3.3V ±50ppm Tri-State Surface Mount HCCMOS Clock Oscillator (CFPS-73 Serie); Manufacturer: EPSON; Manufacturer Part Number: SG-3030JF 32.7680KB0: ROHS; Table: Crystals & Oscillators; Frequency: 32.768kHz; Output: CMOS; Voltage - Supply: 1.5 V ~ 5.5 V; Current - Supply (Max): 2µA; Component Kind: Standard; Component Type: Standard; Footprint: OSCSC508P500X700X180-4N; PackageDescription: SMD Oscillator, side convave, 4 pins, 5.00x7.00mm; Pin Count: 4; Mounted: Yes; Socket: No; SMD: Yes; ComponentHeight: 2mm; HelpURL: \\cern.ch\dfs\Applications\Altium\Datasheets\OSC_RAKON_CFPS.pdf; Author: CERN DEM JLC; CreateDate: 5.10.2009; LatestRevisionDate: 5.10.2009; Category: Crystals and Oscillators; Supplier Part Number: SG-3030JF 32.7680KB0: ROHS-ND; Supplier: Digi-Key; RoHS: RoHS Compliant; Packaging: Tape & Reel (TR); Type: XO (Standard); Function: -; Frequency Stability: -; Operating Temperature: -20°C ~ 70°C; Ratings: -; Mounting Type: Surface Mount; Size / Dimension: 0.280" L x 0.181" W (7.10mm x 4.60mm); Height: 0.059" (1.50mm); Package / Case: 4-SOJ; Current - Supply (Disable) (Max): -; Value: 32.768MHz
footprint OSCSC508P500X700X180-4N
pins: 1 E (in), 2 GND (power), 3 OUT (out), 4 +Vs (power)

## PMOD SSW-106-02-G-D-RA
designator B?, comment SSW-106-02-G-D-RA
Samtec SSW Series 2.54mm 12 Way 2 Row Right Angle PCB Socket Through Hole Board to Board; Geometry.Height: mm; Detailed Description: 12 Position Receptacle Connector Through Hole, Right Angle; Connector Type: Receptacle; Style: Board to Board or Cable; Number of Positions: 12; Number of Positions Loaded: All; Pitch - Mating: 0.100" (2.54mm); Material Flammability Rating: UL94 V-0; Current Rating: 5.7A per Contact; Manufacturer_Name: SAMTEC; Manufacturer_Part_Number: SSW-106-02-G-D-RA; Datasheet Link: http://suddendocs.samtec.com/prints/ssw-1xx-xx-xxx-x-xx-xxx-xx-mkt.pdf; Digi-Key Part Number: SAM10026-ND; Contact Type: Forked; Number of Rows: 2; Row Spacing - Mating: 0.100" (2.54mm); Mounting Type: Through Hole, Right Angle; Termination: Solder; Fastening Type: Push-Pull; Contact Finish - Mating: Tin; Insulation Color: Black; Insulation Height: 0.195" (4.95mm); Contact Length - Post: 0.100" (2.54mm); Operating Temperature: -55°C ~ 105°C; Contact Finish - Post: Tin; Insulation Material: Liquid Crystal Polymer (LCP); Contact Shape: Square; Contact Material: Phosphor Bronze; Supplier 1: Digi-Key; Supplier Part Number 1: SAM1215-06-ND
footprint SSW-106-02-G-D-RA
pins: 1, 2, 3, 4, 5, 6, 7, 8, 9, 10, 11, 12

## R CRCW04024K70FKED
designator R?, comment CRCW04024K70FKED
CRCW0402 Resistor T/R 0.063W,1%,4K7 Vishay CRCW Series Thick Film Surface Mount Resistor 0402 Case 4.7k 1% 0.063W 100ppm/C; Geometry.Height: 0.4mm; Detailed Description: 4.7 kOhms ±1% 0.063W, 1/16W Chip Resistor 0402 (1005 Metric) Automotive AEC-Q200 Thick Film; Resistance: 4.7 kOhms; Power (Watts): 0.063W, 1/16W; Temperature Coefficient: ±100ppm/°C; Manufacturer_Name: Vishay; Manufacturer_Part_Number: CRCW04024K70FKED; Datasheet Link: http://www.vishay.com/docs/20035/dcrcwe3.pdf; Digi-Key Part Number: 541-4.70KLCT-ND; Tolerance: ±1%; Composition: Thick Film; Features: Automotive AEC-Q200; Operating Temperature: -55°C ~ 155°C; Package / Case: 0402 (1005 Metric); Supplier Device Package: 0402; Size / Dimension: 0.039" L x 0.020" W (1.00mm x 0.50mm); Height - Seated (Max): 0.016" (0.40mm); Number of Terminations: 2; Supplier 1: Digi-Key; Supplier Part Number 1: 541-4.70KLCT-ND
footprint RESC1005X40N
pins: 1, 2

## REF3012AIDBZT
designator U?
IC VREF SERIES 1.25V SOT23-3; Manufacturer 1: Texas Instruments; Voltage - Input: 1.8 V ~ 5.5 V; ComponentLink1Description: Datasheet; ComponentLink1URL: C:\Users\Public\Documents\Altium\AD16\Library\PDF\ref3012.pdf; Supplier 1: Digi-Key; Supplier Part Number 1: REF3012AIDBZTCT-ND; Manufacturer Part Number 1: REF3012AIDBZT; Operating Temperature: -40°C ~ 125°C (TA); Voltage - Output (Min/Fixed): 1.25V
footprint TI-DBZ3_N (SOT23, 3-Leads, Body 2.92x1.3 mm, Pitch 0.95 mm, IPC Medium Density)
pins: 1 IN, 2 OUT, 3 GND

## RES0201_2K21
designator R?  (value not drawn)
RES 2.21K OHM 0201 1% 1/20W; Manufacturer: Panasonic; Manufacturer Part Number: ERJ-1GEF2211C; Resistance_In_Ohms: 0.0; Power_(Watts): 0.05W, 1/20W; Tolerance: Jumper; Lead_Style: Surface Mount (SMD - SMT); Voltage_-_Working: 15V; Number_of_Terminations: 2; C: Copyright (C) 2015 Accelerated Designs. All rights reserved; DigiKeyPartNumber: P0.0AGTR-ND; Quantity_Available: 1650000; Copyright: Copyright (C) 2015 Accelerated Designs. All rights reserved; DataSheet: http://industrial.panasonic.com/www-data/pdf/AOA0000/AOA0000CE2.pdf; Case: 0201 (0603 metric); Packaging: Tape &amp; Reel (TR); Composition: Thick Film; Temperature_Coefficient: -; Resistance_(Ohms): 0.0; Features: -; Package_/_Case: 0201 (0603 Metric); Size_/_Dimension: 0.024" L x 0.012" W (0.60mm x 0.30mm); Height: 0.010" (0.26mm); Value: Value; Supplier 1: Digi-Key
footprint RC0201N
pins: 1, 2

## RES0201_2K49
designator R?  value 2.49K
RES 2.49K OHM 0201 1% 1/20W; Manufacturer_Part_Number: CRCW02012K49FKED; Vendor: Vishay; Resistance_In_Ohms: 22.0; Power_(Watts): 0.05W, 1/20W; Tolerance: Â±1%; Lead_Style: Surface Mount (SMD - SMT); Voltage_-_Working: 30V; Temperature_Coefficient: Â±200ppm/Â°C; C: Copyright (C) 2015 Accelerated Designs. All rights reserved; Digi-Key Part Number: 541-2.49KAABCT-ND; Quantity_Available: 0; Copyright: Copyright (C) 2015 Accelerated Designs. All rights reserved; DataSheet: http://www.vishay.com/doc?20035; Case: 0201 (0603 metric); Packaging: Tape &amp; Reel (TR); Composition: Thick Film; Supplier 1: Digi-Key; Supplier Part Number 1: 541-2.49KAABCT-ND
footprint RC0201N
pins: 1, 2

## RES0201_5K76
designator R?  Resistance_(Ohms): 5.76K  (hidden comment: RES0201_5K76)
RES 5.76K OHM 0201 1% 1/20W; Manufacturer: Panasonic; Manufacturer Part Number: ERJ-1GEF5761C; Power_(Watts): 0.05W, 1/20W; Tolerance: Â±1%; Lead_Style: Surface Mount (SMD - SMT); Voltage_-_Working: 15V; Temperature_Coefficient: Â±200ppm/Â°C; Number_of_Terminations: 2; C: Copyright (C) 2015 Accelerated Designs. All rights reserved; DigiKeyPartNumber: P4.70KABTR-ND; Quantity_Available: 0; Copyright: Copyright (C) 2015 Accelerated Designs. All rights reserved; DataSheet: http://industrial.panasonic.com/www-data/pdf/AOA0000/AOA0000CE2.pdf; Resistance_In_Ohms: 5.76K; Case: 0201 (0603 metric); Packaging: Tape &amp; Reel (TR); Composition: Thick Film; Features: -; Package_/_Case: 0201 (0603 Metric); Size_/_Dimension: 0.024" L x 0.012" W (0.60mm x 0.30mm); Height: 0.010" (0.26mm); Value: Value; Supplier 1: Digi-Key; Supplier Part Number 1: P5.76KABCT-ND
footprint RC0201N
pins: 1, 2

## RES0201_8K06
designator R?  (value not drawn)
RES 8.06K OHM 0201 1% 1/20W; Manufacturer: Panasonic; Manufacturer Part Number: ERJ-1GEF8061C; Resistance_In_Ohms: 4.70K; Power_(Watts): 0.05W, 1/20W; Tolerance: Â±1%; Lead_Style: Surface Mount (SMD - SMT); Voltage_-_Working: 15V; Temperature_Coefficient: Â±200ppm/Â°C; Number_of_Terminations: 2; C: Copyright (C) 2015 Accelerated Designs. All rights reserved; DigiKeyPartNumber: P4.70KABTR-ND; Quantity_Available: 0; Copyright: Copyright (C) 2015 Accelerated Designs. All rights reserved; DataSheet: http://industrial.panasonic.com/www-data/pdf/AOA0000/AOA0000CE2.pdf; Case: 0201 (0603 metric); Packaging: Tape &amp; Reel (TR); Composition: Thick Film; Features: -; Package_/_Case: 0201 (0603 Metric); Size_/_Dimension: 0.024" L x 0.012" W (0.60mm x 0.30mm); Height: 0.010" (0.26mm); Value: Value; Supplier 1: Digi-Key
footprint RC0201N
pins: 1, 2

## RES0201_11K
designator R?  value 11K
RES 11.0K OHM 0201 1% 1/20W; Manufacturer_Part_Number: CRCW020111K0FKED; Vendor: Vishay; C: Copyright (C) 2015 Accelerated Designs. All rights reserved; Copyright: Copyright (C) 2015 Accelerated Designs. All rights reserved; Supplier 1: Digi-Key; Supplier Part Number 1: 541-11.0KAABCT-ND
footprint RES_V0201
pins: 1, 2

## RES0201_240R
designator R?  value 240  (hidden comment: RES0201_240R)
VISHAY - CRCW0201240RFNED - RES, THICK FILM, 240R, 1%, 0.05W, 0201; Geometry.Height: 0.28mm; Supplier_Name: RS; RS Part Number: *; Manufacturer_Name: Vishay; Manufacturer_Part_Number: CRCW0201240RFNED; Allied_Number: *; Other Part Number: *; Datasheet Link: http://www.vishay.com/docs/20035/dcrcwe3.pdf; 3D Package: *; Supplier 1: Digi-Key; Supplier Part Number 1: 541-2949-1-ND
footprint RESC0603X28N
pins: 1, 2

## RES0402
designator R?  value DNP  (hidden comment: RES0402)
RES SMD 0402 Footprint; Package: 0402; ComponentLink1Description: Datasheet; Tolerance: -
footprint RESC1005L_0402 (Chip Resistor, Body 1.1x0.5mm, IPC High Density)
pins: 1, 2

## RES0402_0R
designator R?  value 0R  (hidden comment: RES0402_0R)
RES SMD 0 OHM JUMPER 1/16W 0402; Manufacturer 1: Vishay Dale; Manufacturer Part Number 1: CRCW04020000Z0ED; Power: 0.063W, 1/16W; Package: 0402; ComponentLink1Description: Datasheet; Tolerance: -; Supplier 1: Digi-Key; Supplier Part Number 1: 541-0.0JCT-ND
footprint RESC1005L_0402 (Chip Resistor, Body 1.1x0.5mm, IPC High Density)
simulation model RESISTOR (Resistor)
signal-integrity model Res
pins: 1, 2

## RES0402_0R_0W1
designator R?  value 0R  (hidden comment: RES0402_0R_0W1)
RES SMD 0 OHM JUMPER 1/10W 0402; Manufacturer 1: Panasonic Electronic Components; Manufacturer Part Number 1: ERJ-2GE0R00X; Package: 0402; ComponentLink1Description: Datasheet; Power: 1/10W; Tolerance: -; Supplier 1: Digi-Key; Supplier Part Number 1: P0.0JCT-ND
footprint RESC1005L_0402 (Chip Resistor, Body 1.1x0.5mm, IPC High Density)
simulation model RESISTOR (Resistor)
signal-integrity model Res
pins: 1, 2

## RES0402_1K3_0W1_1T
designator R?  value 1.3k  (hidden comment: RES0402_1K3_0W1_1T)
RES SMD 1.3K OHM 1% 1/10W 0402; Manufacturer 1: Panasonic Electronic Components; Manufacturer Part Number 1: ERJ-2RKF1301X; Package: 0402; ComponentLink1Description: Datasheet; Power: 1/10W; Tolerance: 1%; Supplier 1: Digi-Key; Supplier Part Number 1: P1.30KLCT-ND
footprint RESC1005L_0402 (Chip Resistor, Body 1.1x0.5mm, IPC High Density)
simulation model RESISTOR (Resistor)
signal-integrity model Res
pins: 1, 2

## RES0402_1K5
designator R?  value 1.5K
RES SMD 1.5K OHM 1% 1/16W 0402; Manufacturer Part Number: CRCW04021K50FKED; Manufacturer: Vishay Dale; Power: 1/10W; Package: 0402; ComponentLink1Description: Datasheet; Tolerance: 1%; Supplier 1: Digi-Key; Supplier Part Number 1: 311-1.5KJRCT-ND
footprint RESC1005L_0402 (Chip Resistor, Body 1.1x0.5mm, IPC High Density)
simulation model RESISTOR (Resistor)
signal-integrity model Res
pins: 1, 2

## RES0402_1K_0W1_1T
designator R?  value 1k  (hidden comment: RES0402_1K_0W1_1T)
RES SMD 1K OHM 1% 1/10W 0402; Manufacturer 1: Panasonic Electronic Components; Manufacturer Part Number 1: ERJ-2RKF1001X; Package: 0402; ComponentLink1Description: Datasheet; Power: 1/10W; Tolerance: 1%; Supplier 1: Digi-Key; Supplier Part Number 1: P1.00KLCT-ND
footprint RESC1005L_0402 (Chip Resistor, Body 1.1x0.5mm, IPC High Density)
simulation model RESISTOR (Resistor)
signal-integrity model Res
pins: 1, 2

## RES0402_1M
designator R?  value 1M
RES SMD 1M OHM 1% 1/16W 0402; Manufacturer: Vishay Dale; Manufacturer Part Number: CRCW04021M00FKED; Power: 0.063W, 1/16W; Package: 0402; ComponentLink1Description: Datasheet; Tolerance: 1%; Supplier 1: Digi-Key; Supplier Part Number 1: 311-1.00MLRCT-ND
footprint RESC1005L_0402 (Chip Resistor, Body 1.1x0.5mm, IPC High Density)
simulation model RESISTOR (Resistor)
signal-integrity model Res
pins: 1, 2

## RES0402_2K21_0W1_1T
designator R?  value 2.21k  (hidden comment: RES0402_2K21_0W1_1T)
RES SMD 2.21K OHM 1% 1/10W 0402; Manufacturer 1: Panasonic Electronic Components; Manufacturer Part Number 1: ERJ-2RKF2211X; Package: 0402; ComponentLink1Description: Datasheet; Power: 1/10W; Tolerance: 1%; Supplier 1: Digi-Key; Supplier Part Number 1: P2.21KLCT-ND
footprint RESC1005L_0402 (Chip Resistor, Body 1.1x0.5mm, IPC High Density)
simulation model RESISTOR (Resistor)
signal-integrity model Res
pins: 1, 2

## RES0402_2K49_0W1_1T
designator R?  value 2.49k  (hidden comment: RES0402_2K49_0W1_1T)
RES SMD 2.49K OHM 1% 1/10W 0402; Manufacturer 1: Panasonic Electronic Components; Manufacturer Part Number 1: ERJ-2RKF2491X; Package: 0402; ComponentLink1Description: Datasheet; Power: 1/10W; Tolerance: 1%; Supplier 1: Digi-Key; Supplier Part Number 1: P2.49KLCT-ND
footprint RESC1005L_0402 (Chip Resistor, Body 1.1x0.5mm, IPC High Density)
simulation model RESISTOR (Resistor)
signal-integrity model Res
pins: 1, 2

## RES0402_2K_0W1_1T
designator R?  value 2k  (hidden comment: RES0402_2K_0W1_1T)
RES SMD 2K OHM 1% 1/16W 0402; Manufacturer 1: Vishay Dale; Manufacturer Part Number 1: CRCW04022K00FKED; Power: 1/10W; Package: 0402; ComponentLink1Description: Datasheet; Tolerance: 1%; Supplier 1: Digi-Key; Supplier Part Number 1: 541-2.00KLCT-ND
footprint RESC1005L_0402 (Chip Resistor, Body 1.1x0.5mm, IPC High Density)
simulation model RESISTOR (Resistor)
signal-integrity model Res
pins: 1, 2

## RES0402_2R_0W1_1T
designator R?  value 2R  (hidden comment: RES0402_2R_0W1_1T)
RES SMD 2 OHM 1% 1/16W 0402; Manufacturer 1: Vishay Dale; Manufacturer Part Number 1: CRCW04022R00FKED; Power: 1/10W; Package: 0402; ComponentLink1Description: Datasheet; Tolerance: 1%; Supplier 1: Digi-Key; Supplier Part Number 1: 541-2.00LLCT-ND
footprint RESC1005L_0402 (Chip Resistor, Body 1.1x0.5mm, IPC High Density)
simulation model RESISTOR (Resistor)
signal-integrity model Res
pins: 1, 2

## RES0402_4K02
designator R?  value 4.02K  (hidden comment: *)
RES SMD 4.02K OHM 1% 1/16W 0402; Manufacturer_Part_Number: CRCW04024K02FKED; Vendor: Vishay; Resistance_In_Ohms: 0.0; Power_(Watts): 0.063W, 1/16W; Tolerance: Jumper; Lead_Style: Surface Mount (SMD - SMT); Voltage_-_Working: 50V; Number_of_Terminations: 2; C: Copyright (C) 2015 Accelerated Designs. All rights reserved; DigiKeyPartNumber: 541-0.0JTR-ND; Quantity_Available: 3480000; Copyright: Copyright (C) 2015 Accelerated Designs. All rights reserved; DataSheet: http://www.vishay.com/docs/20035/dcrcwe3.pdf; Case: 0402 (1005 metric); Packaging: Tape &amp; Reel (TR); Composition: Thick Film; Temperature_Coefficient: -; Resistance_(Ohms): 0.0; Features: -; Package_/_Case: 0402 (1005 Metric); Size_/_Dimension: 0.039" L x 0.020" W (1.00mm x 0.50mm); Height: 0.016" (0.40mm); Supplier 1: Digi-Key; Supplier Part Number 1: 541-4.02KYCT-ND
footprint RC0402N
pins: 1, 2

## RES0402_4K7_0W1_1T
designator R?  value 4.7k  (hidden comment: RES0402_4K7_0W1_1T)
RES SMD 4.7K OHM 1% 1/10W 0402; Manufacturer 1: Panasonic Electronic Components; Manufacturer Part Number 1: ERJ-2RKF4701X; Package: 0402; ComponentLink1Description: Datasheet; Power: 1/10W; Tolerance: 1%; Supplier 1: Digi-Key; Supplier Part Number 1: P4.70KLCT-ND
footprint RESC1005L_0402 (Chip Resistor, Body 1.1x0.5mm, IPC High Density)
simulation model RESISTOR (Resistor)
signal-integrity model Res
pins: 1, 2

## RES0402_4K64_0W1_1T
designator R?  value 4.64k  (hidden comment: RES0402_4K64_0W1_1T)
RES SMD 4.64K OHM 1% 1/10W 0402; Manufacturer 1: Panasonic Electronic Components; Manufacturer Part Number 1: ERJ-2RKF4641X; Package: 0402; ComponentLink1Description: Datasheet; Power: 1/10W; Tolerance: 1%; Supplier 1: Digi-Key; Supplier Part Number 1: P4.64KLCT-ND
footprint RESC1005L_0402 (Chip Resistor, Body 1.1x0.5mm, IPC High Density)
simulation model RESISTOR (Resistor)
signal-integrity model Res
pins: 1, 2

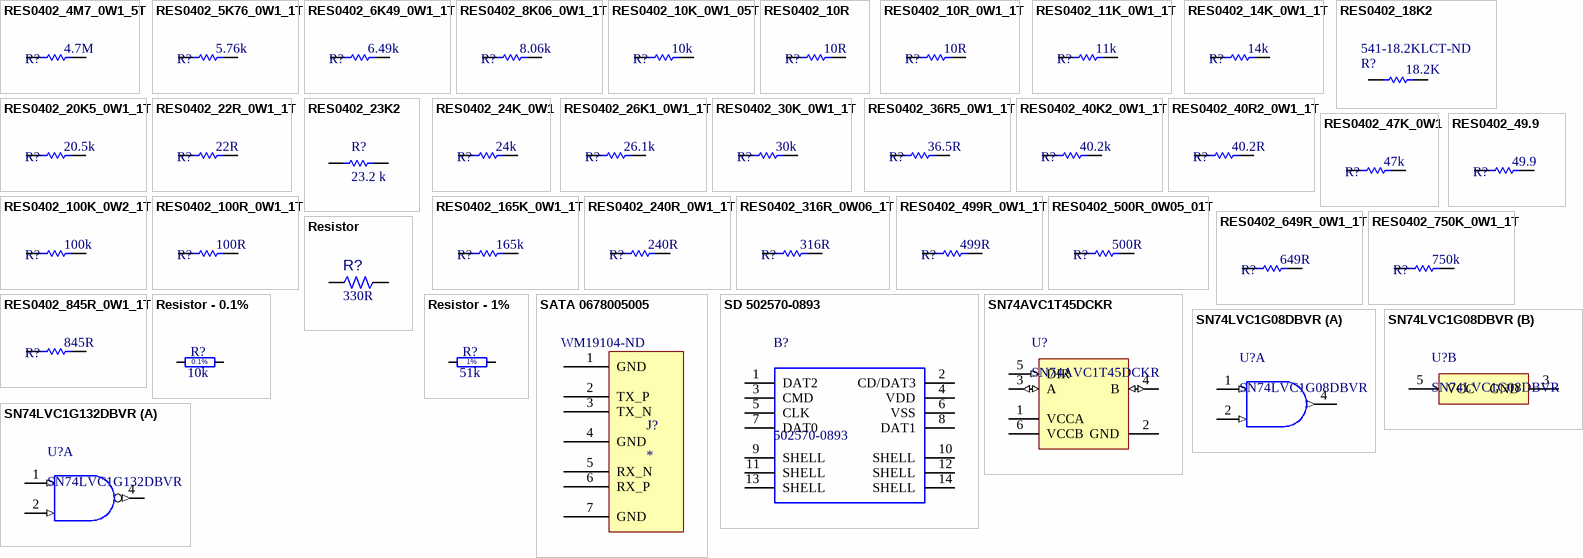
[diagram p4: symbols RES0402_4M7_0W1_5T to SN74LVC1G132DBVR]

## RES0402_4M7_0W1_5T
designator R?  value 4.7M  (hidden comment: RES0402_4M7_0W1_5T)
RES SMD 4.7M OHM 5% 1/16W 0402; Manufacturer 1: Vishay Dale; Manufacturer Part Number 1: CRCW04024M70JNED; Power: 1/10W; Package: 0402; ComponentLink1Description: Datasheet; Tolerance: 5%; Supplier 1: Digi-Key; Supplier Part Number 1: 541-4.7MJCT-ND
footprint RESC1005L_0402 (Chip Resistor, Body 1.1x0.5mm, IPC High Density)
simulation model RESISTOR (Resistor)
signal-integrity model Res
pins: 1, 2

## RES0402_5K76_0W1_1T
designator R?  value 5.76k  (hidden comment: RES0402_5K76_0W1_1T)
RES SMD 5.76K OHM 1% 1/10W 0402; Manufacturer 1: Panasonic Electronic Components; Manufacturer Part Number 1: ERJ-2RKF5761X; Package: 0402; ComponentLink1Description: Datasheet; Power: 1/10W; Tolerance: 1%; Supplier 1: Digi-Key; Supplier Part Number 1: P5.76KLCT-ND
footprint RESC1005L_0402 (Chip Resistor, Body 1.1x0.5mm, IPC High Density)
simulation model RESISTOR (Resistor)
signal-integrity model Res
pins: 1, 2

## RES0402_6K49_0W1_1T
designator R?  value 6.49k  (hidden comment: RES0402_6K49_0W1_1T)
RES SMD 6.49K OHM 1% 1/10W 0402; Manufacturer 1: Panasonic Electronic Components; Manufacturer Part Number 1: ERJ-2RKF6491X; Package: 0402; ComponentLink1Description: Datasheet; Power: 1/10W; Tolerance: 1%; Supplier 1: Digi-Key; Supplier Part Number 1: P6.49KLCT-ND
footprint RESC1005L_0402 (Chip Resistor, Body 1.1x0.5mm, IPC High Density)
simulation model RESISTOR (Resistor)
signal-integrity model Res
pins: 1, 2

## RES0402_8K06_0W1_1T
designator R?  value 8.06k  (hidden comment: RES0402_8K06_0W1_1T)
RES SMD 8.06K OHM 1% 1/10W 0402; Manufacturer 1: Panasonic Electronic Components; Manufacturer Part Number 1: ERJ-2RKF8061X; Package: 0402; ComponentLink1Description: Datasheet; Power: 1/10W; Tolerance: 1%; Supplier 1: Digi-Key; Supplier Part Number 1: P8.06KLCT-ND
footprint RESC1005L_0402 (Chip Resistor, Body 1.1x0.5mm, IPC High Density)
simulation model RESISTOR (Resistor)
signal-integrity model Res
pins: 1, 2